# Altium footprint library Calatex.PcbLib: 1 footprints
Each footprint in its own frame and in the unit in brackets; x right, y up, seen from the top. Pads: shape width x height; smd on the part's side, far side on the other; paste and mask are expansions set on the pad; w line width, h text height; cw(c..) or ccw(c..) is an arc to the next point about the centre after c.
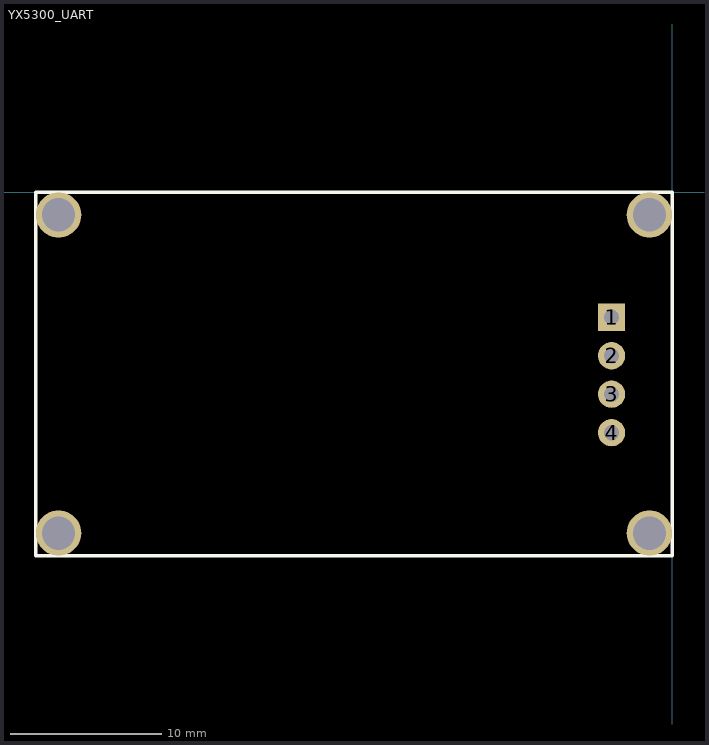
[diagram p0: the footprint, top view; thin cyan lines are the x and y axes]

## YX5300_UART [mm]
height 3
pads (8):
  rect 1.8x1.8 hole 1: 1(-4,-8.255)
  round 1.8 hole 1: 2(-4,-10.795) 3(-4,-13.335) 4(-4,-15.875)
  round 3 hole 2.2: ""(-40.5,-22.5) ""(-40.5,-1.5) ""(-1.5,-22.5) ""(-1.5,-1.5)
Top Overlay:
  lines w0.254: -42,-24 -42,0 0,0 0,-24 -42,-24